# Altium schematic symbol library IND,1mH,100mA,Wirewound,1210.Schlib: 1 symbol
Pins are listed as number, name and electrical type; pins without a type are passive.

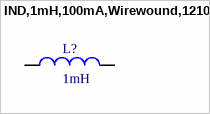
[diagram p0: symbol IND,1mH,100mA,Wirewound,1210]

## IND,1mH,100mA,Wirewound,1210
designator L?, comment 1mH
1 mH Unshielded Wirewound Inductor 100 mA 16.9Ohm Max 1210 (3225 Metric)
pins: 1, 2